# Altium footprint library con-lsta.PCBLIB: 47 footprints (part 3 of 3)
Each footprint in its own frame and in the unit in brackets; x right, y up, seen from the top. Pads: shape width x height; smd on the part's side, far side on the other; paste and mask are expansions set on the pad; w line width, h text height; cw(c..) or ccw(c..) is an arc to the next point about the centre after c.
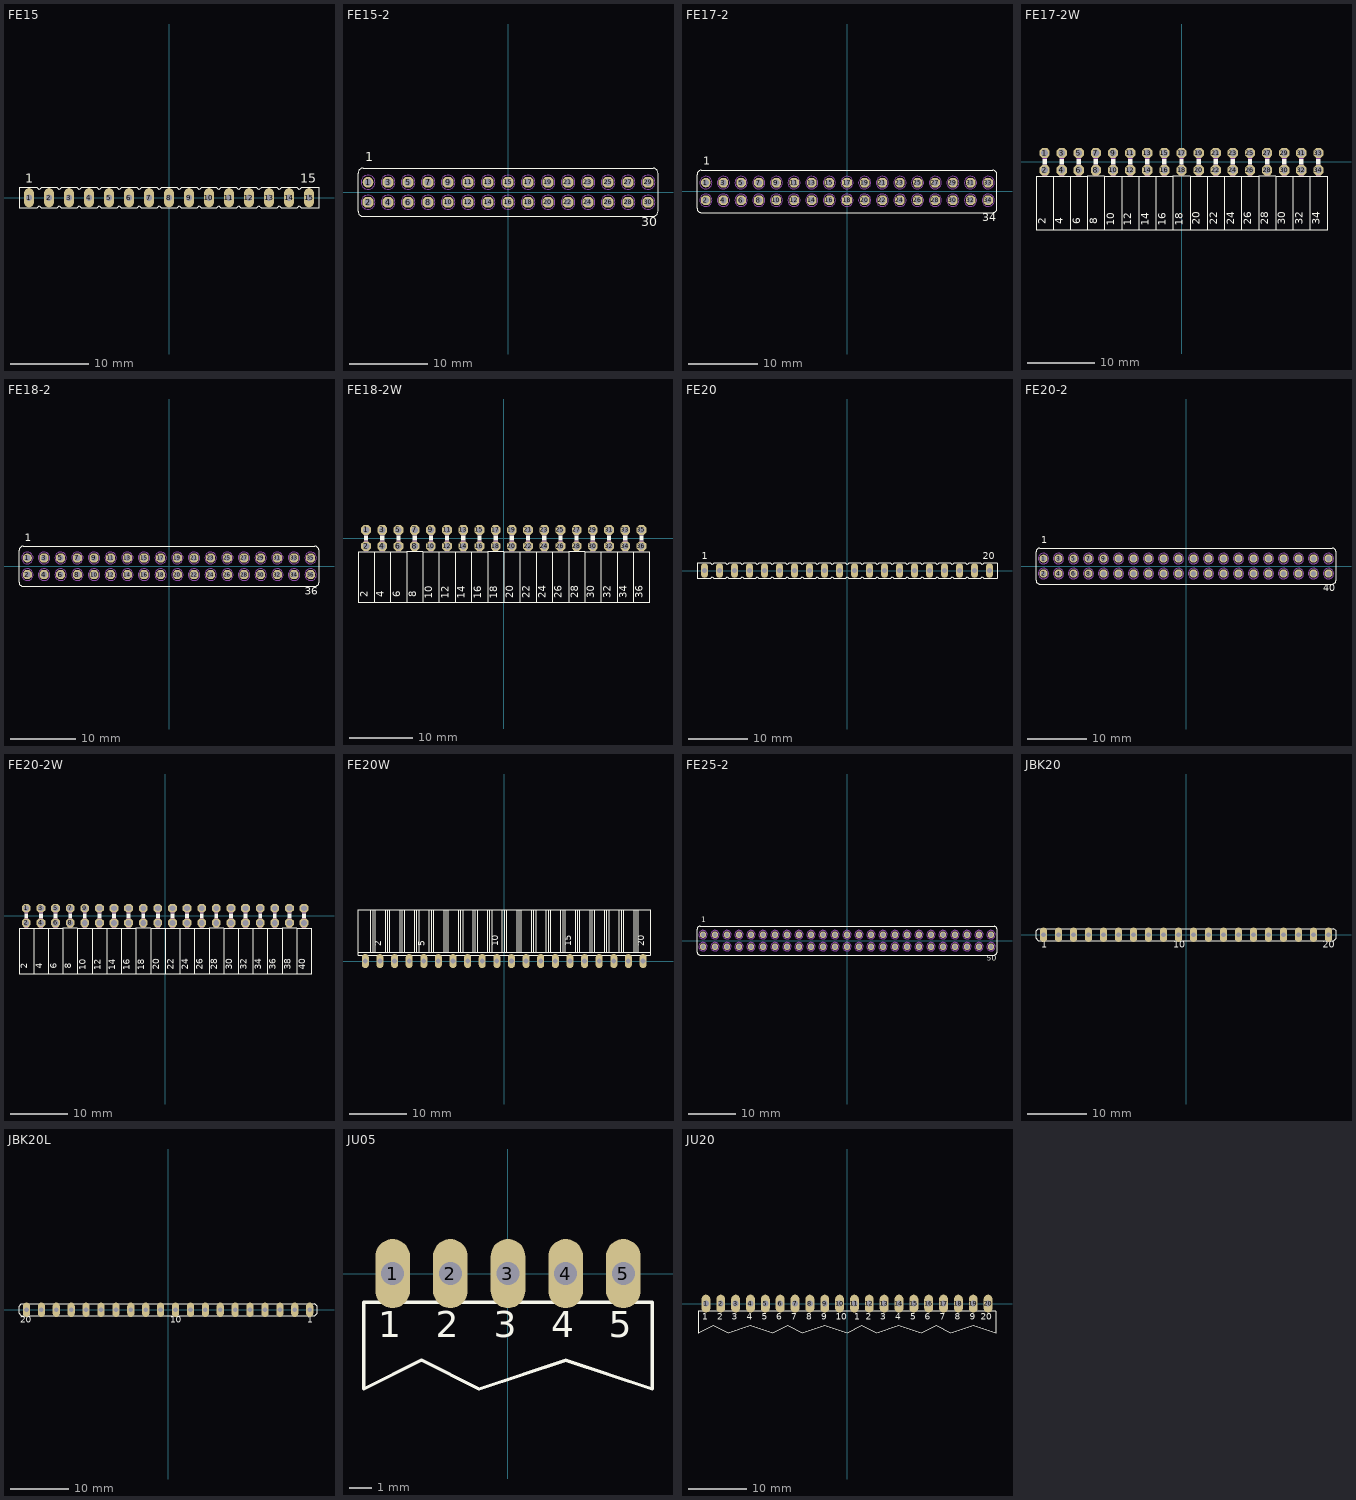
[diagram p2: the footprints below, top view; thin cyan lines are the x and y axes]

## FE15 [mil]
pads (15):
  oval 48x96 hole 32: 1(-700,0) 2(-600,0) 3(-500,0) 4(-400,0) 5(-300,0) 6(-200,0) 7(-100,0) 8(0,0) 9(100,0) 10(200,0) 11(300,0) 12(400,0) 13(500,0) 14(600,0) 15(700,0)
Top Overlay:
  lines w6: -750,-50 -750,50 -660,50 -650,40 -640,50 -560,50 -550,40 -540,50 -460,50 -450,40 -440,50 -360,50 -350,40 -340,50 -260,50 -250,40 -240,50 -160,50 -150,40 -140,50 -60,50 -50,40 -40,50 40,50 50,40 60,50 140,50 150,40 160,50 240,50 250,40 260,50 340,50 350,40 360,50 440,50 450,40 460,50 540,50 550,40 560,50 640,50 650,40 660,50 750,50 750,-50 660,-50 650,-40 640,-50 560,-50 550,-40 540,-50 460,-50 450,-40 440,-50 360,-50 350,-40 340,-50 260,-50 250,-40 240,-50 160,-50 150,-40 140,-50 60,-50 50,-40 40,-50 -40,-50 -50,-40 -60,-50 -140,-50 -150,-40 -160,-50 -240,-50 -250,-40 -260,-50 -340,-50 -350,-40 -360,-50 -440,-50 -450,-40 -460,-50 -540,-50 -550,-40 -560,-50 -640,-50 -650,-40 -660,-50 -750,-50
  text "1" at -720,60 h77.5
  text "15" at 655,60 h77.5
Mechanical 16:
  drawing of 210 lines, arcs and shapes, not listed

## FE15-2 [mil]
pads (30):
  round 54 hole 36: 1(-700,50)
  oct 54x54 hole 36: 2(-700,-50) 3(-600,50) 4(-600,-50) 5(-500,50) 6(-500,-50) 7(-400,50) 8(-400,-50) 9(-300,50) 10(-300,-50) 11(-200,50) 12(-200,-50) 13(-100,50) 14(-100,-50) 15(0,50) 16(0,-50) 17(100,50) 18(100,-50) 19(200,50) 20(200,-50) 21(300,50) 22(300,-50) 23(400,50) 24(400,-50) 25(500,50) 26(500,-50) 27(600,50) 28(600,-50) 29(700,50) 30(700,-50)
Top Overlay:
  lines w6: -750,-95 -750,95 cw(c-725,95) -725,120 725,120 cw(c725,95) 750,95 750,-95 cw(c725,-95) 725,-120 -725,-120 cw(c-725,-95) -750,-95
  text "1" at -715,140 h77.5
  text "30" at 665,-185 h77.5
Mechanical 16:
  circle w16: c-700,-50 r5
  circle w16: c-700,50 r5
  circle w16: c-600,-50 r5
  circle w16: c-600,50 r5
  circle w16: c-500,-50 r5
  circle w16: c-500,50 r5
  circle w16: c-400,-50 r5
  circle w16: c-400,50 r5
  circle w16: c-300,-50 r5
  circle w16: c-300,50 r5
  circle w6: c-700,-50 r35
  circle w6: c-700,50 r35
  circle w6: c-600,50 r35
  circle w6: c-500,50 r35
  circle w6: c-400,50 r35
  circle w6: c-300,50 r35
  circle w6: c-600,-50 r35
  circle w6: c-500,-50 r35
  circle w6: c-400,-50 r35
  circle w6: c-300,-50 r35
  circle w16: c-200,-50 r5
  circle w16: c-200,50 r5
  circle w16: c-100,-50 r5
  circle w16: c-100,50 r5
  circle w16: c0,-50 r5
  circle w16: c0,50 r5
  circle w16: c100,-50 r5
  circle w16: c100,50 r5
  circle w16: c200,-50 r5
  circle w16: c200,50 r5
  circle w6: c-200,-50 r35
  circle w6: c-200,50 r35
  circle w6: c-100,50 r35
  circle w6: c0,50 r35
  circle w6: c100,50 r35
  circle w6: c200,50 r35
  circle w6: c-100,-50 r35
  circle w6: c0,-50 r35
  circle w6: c100,-50 r35
  circle w6: c200,-50 r35
  circle w16: c300,-50 r5
  circle w16: c300,50 r5
  circle w16: c400,-50 r5
  circle w16: c400,50 r5
  circle w16: c500,-50 r5
  circle w16: c500,50 r5
  circle w16: c600,-50 r5
  circle w16: c600,50 r5
  circle w16: c700,-50 r5
  circle w16: c700,50 r5
  circle w6: c300,-50 r35
  circle w6: c300,50 r35
  circle w6: c400,50 r35
  circle w6: c500,50 r35
  circle w6: c600,50 r35
  circle w6: c700,50 r35
  circle w6: c400,-50 r35
  circle w6: c500,-50 r35
  circle w6: c600,-50 r35
  circle w6: c700,-50 r35

## FE17-2 [mil]
pads (34):
  round 54 hole 36: 1(-800,50)
  oct 54x54 hole 36: 2(-800,-50) 3(-700,50) 4(-700,-50) 5(-600,50) 6(-600,-50) 7(-500,50) 8(-500,-50) 9(-400,50) 10(-400,-50) 11(-300,50) 12(-300,-50) 13(-200,50) 14(-200,-50) 15(-100,50) 16(-100,-50) 17(0,50) 18(0,-50) 19(100,50) 20(100,-50) 21(200,50) 22(200,-50) 23(300,50) 24(300,-50) 25(400,50) 26(400,-50) 27(500,50) 28(500,-50) 29(600,50) 30(600,-50) 31(700,50) 32(700,-50) 33(800,50) 34(800,-50)
Top Overlay:
  lines w6: -850,-95 -850,95 cw(c-825,95) -825,120 825,120 cw(c825,95) 850,95 850,-95 cw(c825,-95) 825,-120 -825,-120 cw(c-825,-95) -850,-95
  text "1" at -815,135 h77.5
  text "34" at 765,-185 h77.5
Mechanical 16:
  circle w16: c-800,-50 r5
  circle w16: c-800,50 r5
  circle w16: c-700,-50 r5
  circle w16: c-700,50 r5
  circle w16: c-600,-50 r5
  circle w16: c-600,50 r5
  circle w16: c-500,-50 r5
  circle w16: c-500,50 r5
  circle w16: c-400,-50 r5
  circle w16: c-400,50 r5
  circle w6: c-800,-50 r35
  circle w6: c-800,50 r35
  circle w6: c-700,50 r35
  circle w6: c-600,50 r35
  circle w6: c-500,50 r35
  circle w6: c-400,50 r35
  circle w6: c-700,-50 r35
  circle w6: c-600,-50 r35
  circle w6: c-500,-50 r35
  circle w6: c-400,-50 r35
  circle w16: c-300,-50 r5
  circle w16: c-300,50 r5
  circle w16: c-200,-50 r5
  circle w16: c-200,50 r5
  circle w16: c-100,-50 r5
  circle w16: c-100,50 r5
  circle w16: c0,-50 r5
  circle w16: c0,50 r5
  circle w16: c100,-50 r5
  circle w16: c100,50 r5
  circle w6: c-300,-50 r35
  circle w6: c-300,50 r35
  circle w6: c-200,50 r35
  circle w6: c-100,50 r35
  circle w6: c0,50 r35
  circle w6: c100,50 r35
  circle w6: c-200,-50 r35
  circle w6: c-100,-50 r35
  circle w6: c0,-50 r35
  circle w6: c100,-50 r35
  circle w16: c200,-50 r5
  circle w16: c200,50 r5
  circle w16: c300,-50 r5
  circle w16: c300,50 r5
  circle w16: c400,-50 r5
  circle w16: c400,50 r5
  circle w16: c500,-50 r5
  circle w16: c500,50 r5
  circle w16: c600,-50 r5
  circle w16: c600,50 r5
  circle w6: c200,-50 r35
  circle w6: c200,50 r35
  circle w6: c300,50 r35
  circle w6: c400,50 r35
  circle w6: c500,50 r35
  circle w6: c600,50 r35
  circle w6: c300,-50 r35
  circle w6: c400,-50 r35
  circle w6: c500,-50 r35
  circle w6: c600,-50 r35
  circle w16: c700,-50 r5
  circle w16: c700,50 r5
  circle w16: c800,-50 r5
  circle w16: c800,50 r5
  circle w6: c700,-50 r35
  circle w6: c700,50 r35
  circle w6: c800,50 r35
  circle w6: c800,-50 r35

## FE17-2W [mil]
pads (34):
  oct 60x60 hole 40: 1(-800,50) 2(-800,-50) 3(-700,50) 4(-700,-50) 5(-600,50) 6(-600,-50) 7(-500,50) 8(-500,-50) 9(-400,50) 10(-400,-50) 11(-300,50) 12(-300,-50) 13(-200,50) 14(-200,-50) 15(-100,50) 16(-100,-50) 17(0,50) 18(0,-50) 19(100,50) 20(100,-50) 21(200,50) 22(200,-50) 23(300,50) 24(300,-50) 25(400,50) 26(400,-50) 27(500,50) 28(500,-50) 29(600,50) 30(600,-50) 31(700,50) 32(700,-50) 33(800,50) 34(800,-50)
Top Overlay:
  rectangle: 787,-16 813,16
  rectangle: 687,-16 713,16
  rectangle: 587,-16 613,16
  rectangle: 487,-16 513,16
  rectangle: 387,-16 413,16
  rectangle: 287,-16 313,16
  rectangle: 187,-16 213,16
  rectangle: 87,-16 113,16
  rectangle: -13,-16 13,16
  rectangle: -113,-16 -87,16
  rectangle: -213,-16 -187,16
  rectangle: -313,-16 -287,16
  rectangle: -413,-16 -387,16
  rectangle: -513,-16 -487,16
  rectangle: -613,-16 -587,16
  rectangle: -713,-16 -687,16
  rectangle: -813,-16 -787,16
  lines w6: -750,-400 -750,-85 ; -750,-400 -650,-400 ; -750,-400 -850,-400 -850,-85 -750,-85 ; -750,-85 -650,-85 ; -650,-400 -650,-85 ; -650,-400 -550,-400 ; -650,-85 -550,-85 ; -550,-400 -550,-85 ; -550,-400 -450,-400 ; -550,-85 -450,-85 ; -450,-400 -450,-85 ; -450,-400 -350,-400 ; -450,-85 -350,-85 ; -350,-400 -350,-85 ; -350,-400 -250,-400 ; -350,-85 -250,-85 ; -250,-400 -250,-85 ; -250,-400 -150,-400 ; -250,-85 -150,-85 ; -150,-400 -150,-85 ; -150,-400 -50,-400 ; -150,-85 -50,-85 ; -50,-400 -50,-85 ; -50,-400 50,-400 ; -50,-85 50,-85 ; 50,-400 50,-85 ; 50,-400 150,-400 ; 50,-85 150,-85 ; 150,-400 150,-85 ; 150,-400 250,-400 ; 150,-85 250,-85 ; 250,-400 250,-85 ; 250,-400 350,-400 ; 250,-85 350,-85 ; 350,-400 350,-85 ; 350,-400 450,-400 ; 350,-85 450,-85 ; 450,-400 450,-85 ; 450,-400 550,-400 ; 450,-85 550,-85 ; 550,-400 550,-85 ; 550,-400 650,-400 ; 550,-85 650,-85 ; 650,-400 650,-85 ; 650,-400 750,-400 ; 650,-85 750,-85 ; 750,-400 750,-85 ; 750,-400 850,-400 850,-85 750,-85
  text "34" at 825,-370 h77.5
  text "32" at 725,-370 h77.5
  text "30" at 625,-370 h77.5
  text "28" at 525,-370 h77.5
  text "26" at 425,-370 h77.5
  text "24" at 325,-370 h77.5
  text "22" at 225,-370 h77.5
  text "20" at 125,-370 h77.5
  text "18" at 25,-375 h77.5
  text "16" at -75,-375 h77.5
  text "14" at -175,-375 h77.5
  text "12" at -275,-375 h77.5
  text "10" at -375,-375 h77.5
  text "8" at -475,-365 h77.5
  text "6" at -575,-365 h77.5
  text "4" at -675,-365 h77.5
  text "2" at -775,-365 h77.5
Mechanical 16:
  rectangle: 787,-84 813,-16
  rectangle: 787,16 813,62
  rectangle: 687,-84 713,-16
  rectangle: 587,-84 613,-16
  rectangle: 687,16 713,62
  rectangle: 587,16 613,62
  rectangle: 487,-84 513,-16
  rectangle: 487,16 513,62
  rectangle: 387,-84 413,-16
  rectangle: 387,16 413,62
  rectangle: 287,-84 313,-16
  rectangle: 187,-84 213,-16
  rectangle: 287,16 313,62
  rectangle: 187,16 213,62
  rectangle: 87,-84 113,-16
  rectangle: -13,-84 13,-16
  rectangle: -113,-84 -87,-16
  rectangle: 87,16 113,62
  rectangle: -13,16 13,62
  rectangle: -113,16 -87,62
  rectangle: -213,16 -187,62
  rectangle: -313,16 -287,62
  rectangle: -213,-84 -187,-16
  rectangle: -313,-84 -287,-16
  rectangle: -413,-84 -387,-16
  rectangle: -513,-84 -487,-16
  rectangle: -413,16 -387,62
  rectangle: -513,16 -487,62
  rectangle: -613,-84 -587,-16
  rectangle: -713,-84 -687,-16
  rectangle: -813,-84 -787,-16
  rectangle: -613,16 -587,62
  rectangle: -713,16 -687,62
  rectangle: -813,16 -787,62

## FE18-2 [mil]
pads (36):
  round 54 hole 36: 1(-850,50)
  oct 54x54 hole 36: 2(-850,-50) 3(-750,50) 4(-750,-50) 5(-650,50) 6(-650,-50) 7(-550,50) 8(-550,-50) 9(-450,50) 10(-450,-50) 11(-350,50) 12(-350,-50) 13(-250,50) 14(-250,-50) 15(-150,50) 16(-150,-50) 17(-50,50) 18(-50,-50) 19(50,50) 20(50,-50) 21(150,50) 22(150,-50) 23(250,50) 24(250,-50) 25(350,50) 26(350,-50) 27(450,50) 28(450,-50) 29(550,50) 30(550,-50) 31(650,50) 32(650,-50) 33(750,50) 34(750,-50) 35(850,50) 36(850,-50)
Top Overlay:
  lines w6: -900,-95 -900,95 cw(c-875,95) -875,120 875,120 cw(c875,95) 900,95 900,-95 cw(c875,-95) 875,-120 -875,-120 cw(c-875,-95) -900,-95
  text "1" at -865,135 h77.5
  text "36" at 815,-185 h77.5
Mechanical 16:
  circle w16: c-850,-50 r5
  circle w16: c-850,50 r5
  circle w16: c-750,-50 r5
  circle w16: c-750,50 r5
  circle w16: c-650,-50 r5
  circle w16: c-650,50 r5
  circle w16: c-550,-50 r5
  circle w16: c-550,50 r5
  circle w16: c-450,-50 r5
  circle w16: c-450,50 r5
  circle w6: c-850,-50 r35
  circle w6: c-850,50 r35
  circle w6: c-750,50 r35
  circle w6: c-650,50 r35
  circle w6: c-550,50 r35
  circle w6: c-450,50 r35
  circle w6: c-750,-50 r35
  circle w6: c-650,-50 r35
  circle w6: c-550,-50 r35
  circle w6: c-450,-50 r35
  circle w16: c-350,-50 r5
  circle w16: c-350,50 r5
  circle w16: c-250,-50 r5
  circle w16: c-250,50 r5
  circle w16: c-150,-50 r5
  circle w16: c-150,50 r5
  circle w16: c-50,-50 r5
  circle w16: c-50,50 r5
  circle w16: c50,-50 r5
  circle w16: c50,50 r5
  circle w6: c-350,-50 r35
  circle w6: c-350,50 r35
  circle w6: c-250,50 r35
  circle w6: c-150,50 r35
  circle w6: c-50,50 r35
  circle w6: c50,50 r35
  circle w6: c-250,-50 r35
  circle w6: c-150,-50 r35
  circle w6: c-50,-50 r35
  circle w6: c50,-50 r35
  circle w16: c150,-50 r5
  circle w16: c150,50 r5
  circle w16: c250,-50 r5
  circle w16: c250,50 r5
  circle w16: c350,-50 r5
  circle w16: c350,50 r5
  circle w16: c450,-50 r5
  circle w16: c450,50 r5
  circle w16: c550,-50 r5
  circle w16: c550,50 r5
  circle w6: c150,-50 r35
  circle w6: c150,50 r35
  circle w6: c250,50 r35
  circle w6: c350,50 r35
  circle w6: c450,50 r35
  circle w6: c550,50 r35
  circle w6: c250,-50 r35
  circle w6: c350,-50 r35
  circle w6: c450,-50 r35
  circle w6: c550,-50 r35
  circle w16: c650,-50 r5
  circle w16: c650,50 r5
  circle w16: c750,-50 r5
  circle w16: c750,50 r5
  circle w6: c650,-50 r35
  circle w6: c650,50 r35
  circle w6: c750,50 r35
  circle w6: c750,-50 r35
  circle w16: c850,-50 r5
  circle w16: c850,50 r5
  circle w6: c850,-50 r35
  circle w6: c850,50 r35

## FE18-2W [mil]
pads (36):
  oct 60x60 hole 40: 1(-850,50) 2(-850,-50) 3(-750,50) 4(-750,-50) 5(-650,50) 6(-650,-50) 7(-550,50) 8(-550,-50) 9(-450,50) 10(-450,-50) 11(-350,50) 12(-350,-50) 13(-250,50) 14(-250,-50) 15(-150,50) 16(-150,-50) 17(-50,50) 18(-50,-50) 19(50,50) 20(50,-50) 21(150,50) 22(150,-50) 23(250,50) 24(250,-50) 25(350,50) 26(350,-50) 27(450,50) 28(450,-50) 29(550,50) 30(550,-50) 31(650,50) 32(650,-50) 33(750,50) 34(750,-50) 35(850,50) 36(850,-50)
Top Overlay:
  rectangle: 737,-16 763,16
  rectangle: 637,-16 663,16
  rectangle: 537,-16 563,16
  rectangle: 437,-16 463,16
  rectangle: 337,-16 363,16
  rectangle: 237,-16 263,16
  rectangle: 137,-16 163,16
  rectangle: 37,-16 63,16
  rectangle: -63,-16 -37,16
  rectangle: -163,-16 -137,16
  rectangle: -263,-16 -237,16
  rectangle: -363,-16 -337,16
  rectangle: -463,-16 -437,16
  rectangle: -563,-16 -537,16
  rectangle: -663,-16 -637,16
  rectangle: -763,-16 -737,16
  rectangle: -863,-16 -837,16
  rectangle: 837,-16 863,16
  lines w6: -800,-400 -800,-85 ; -800,-400 -700,-400 ; -800,-400 -900,-400 -900,-85 -800,-85 ; -800,-85 -700,-85 ; -700,-400 -700,-85 ; -700,-400 -600,-400 ; -700,-85 -600,-85 ; -600,-400 -600,-85 ; -600,-400 -500,-400 ; -600,-85 -500,-85 ; -500,-400 -500,-85 ; -500,-400 -400,-400 ; -500,-85 -400,-85 ; -400,-400 -400,-85 ; -400,-400 -300,-400 ; -400,-85 -300,-85 ; -300,-400 -300,-85 ; -300,-400 -200,-400 ; -300,-85 -200,-85 ; -200,-400 -200,-85 ; -200,-400 -100,-400 ; -200,-85 -100,-85 ; -100,-400 -100,-85 ; -100,-400 0,-400 ; -100,-85 0,-85 ; 0,-400 0,-85 ; 0,-400 100,-400 ; 0,-85 100,-85 ; 100,-400 100,-85 ; 100,-400 200,-400 ; 100,-85 200,-85 ; 200,-400 200,-85 ; 200,-400 300,-400 ; 200,-85 300,-85 ; 300,-400 300,-85 ; 300,-400 400,-400 ; 300,-85 400,-85 ; 400,-400 400,-85 ; 400,-400 500,-400 ; 400,-85 500,-85 ; 500,-400 500,-85 ; 500,-400 600,-400 ; 500,-85 600,-85 ; 600,-400 600,-85 ; 600,-400 700,-400 ; 600,-85 700,-85 ; 700,-400 700,-85 ; 700,-400 800,-400 ; 700,-85 800,-85 ; 800,-400 800,-85 ; 800,-400 900,-400 900,-85 800,-85
  text "34" at 775,-370 h77.5
  text "32" at 675,-370 h77.5
  text "30" at 575,-370 h77.5
  text "28" at 475,-370 h77.5
  text "26" at 375,-370 h77.5
  text "24" at 275,-370 h77.5
  text "22" at 175,-370 h77.5
  text "20" at 75,-370 h77.5
  text "18" at -25,-375 h77.5
  text "16" at -125,-375 h77.5
  text "14" at -225,-375 h77.5
  text "12" at -325,-375 h77.5
  text "10" at -425,-375 h77.5
  text "8" at -525,-365 h77.5
  text "6" at -625,-365 h77.5
  text "4" at -725,-365 h77.5
  text "2" at -825,-365 h77.5
  text "36" at 875,-370 h77.5
Mechanical 16:
  rectangle: 737,-84 763,-16
  rectangle: 737,16 763,62
  rectangle: 637,-84 663,-16
  rectangle: 537,-84 563,-16
  rectangle: 637,16 663,62
  rectangle: 537,16 563,62
  rectangle: 437,-84 463,-16
  rectangle: 437,16 463,62
  rectangle: 337,-84 363,-16
  rectangle: 337,16 363,62
  rectangle: 237,-84 263,-16
  rectangle: 137,-84 163,-16
  rectangle: 237,16 263,62
  rectangle: 137,16 163,62
  rectangle: 37,-84 63,-16
  rectangle: -63,-84 -37,-16
  rectangle: -163,-84 -137,-16
  rectangle: 37,16 63,62
  rectangle: -63,16 -37,62
  rectangle: -163,16 -137,62
  rectangle: -263,16 -237,62
  rectangle: -363,16 -337,62
  rectangle: -263,-84 -237,-16
  rectangle: -363,-84 -337,-16
  rectangle: -463,-84 -437,-16
  rectangle: -563,-84 -537,-16
  rectangle: -463,16 -437,62
  rectangle: -563,16 -537,62
  rectangle: -663,-84 -637,-16
  rectangle: -763,-84 -737,-16
  rectangle: -863,-84 -837,-16
  rectangle: -663,16 -637,62
  rectangle: -763,16 -737,62
  rectangle: -863,16 -837,62
  rectangle: 837,16 863,62
  rectangle: 837,-84 863,-16

## FE20 [mil]
pads (20):
  oval 48x96 hole 32: 1(-950,0) 2(-850,0) 3(-750,0) 4(-650,0) 5(-550,0) 6(-450,0) 7(-350,0) 8(-250,0) 9(-150,0) 10(-50,0) 11(50,0) 12(150,0) 13(250,0) 14(350,0) 15(450,0) 16(550,0) 17(650,0) 18(750,0) 19(850,0) 20(950,0)
Top Overlay:
  lines w6: -1000,-50 -1000,50 -910,50 -900,40 -890,50 -810,50 -800,40 -790,50 -710,50 -700,40 -690,50 -610,50 -600,40 -590,50 -510,50 -500,40 -490,50 -410,50 -400,40 -390,50 -310,50 -300,40 -290,50 -210,50 -200,40 -190,50 -110,50 -100,40 -90,50 -10,50 0,40 10,50 90,50 100,40 110,50 190,50 200,40 210,50 290,50 300,40 310,50 390,50 400,40 410,50 490,50 500,40 510,50 590,50 600,40 610,50 690,50 700,40 710,50 790,50 800,40 810,50 890,50 900,40 910,50 1000,50 1000,-50 910,-50 900,-40 890,-50 810,-50 800,-40 790,-50 710,-50 700,-40 690,-50 610,-50 600,-40 590,-50 510,-50 500,-40 490,-50 410,-50 400,-40 390,-50 310,-50 300,-40 290,-50 210,-50 200,-40 190,-50 110,-50 100,-40 90,-50 10,-50 0,-40 -10,-50 -90,-50 -100,-40 -110,-50 -190,-50 -200,-40 -210,-50 -290,-50 -300,-40 -310,-50 -390,-50 -400,-40 -410,-50 -490,-50 -500,-40 -510,-50 -590,-50 -600,-40 -610,-50 -690,-50 -700,-40 -710,-50 -790,-50 -800,-40 -810,-50 -890,-50 -900,-40 -910,-50 -1000,-50
  text "1" at -970,60 h77.5
  text "20" at 905,60 h77.5
Mechanical 16:
  drawing of 280 lines, arcs and shapes, not listed

## FE20-2 [mil]
pads (40):
  round 54 hole 36: 1(-950,50)
  oct 54x54 hole 36: 2(-950,-50) 3(-850,50) 4(-850,-50) 5(-750,50) 6(-750,-50) 7(-650,50) 8(-650,-50) 9(-550,50) 10(-550,-50) 11(-450,50) 12(-450,-50) 13(-350,50) 14(-350,-50) 15(-250,50) 16(-250,-50) 17(-150,50) 18(-150,-50) 19(-50,50) 20(-50,-50) 21(50,50) 22(50,-50) 23(150,50) 24(150,-50) 25(250,50) 26(250,-50) 27(350,50) 28(350,-50) 29(450,50) 30(450,-50) 31(550,50) 32(550,-50) 33(650,50) 34(650,-50) 35(750,50) 36(750,-50) 37(850,50) 38(850,-50) 39(950,50) 40(950,-50)
Top Overlay:
  lines w6: -1000,-95 -1000,95 cw(c-975,95) -975,120 975,120 cw(c975,95) 1000,95 1000,-95 cw(c975,-95) 975,-120 -975,-120 cw(c-975,-95) -1000,-95
  text "1" at -965,135 h77.5
  text "40" at 915,-185 h77.5
Mechanical 16:
  circle w16: c-950,-50 r5
  circle w16: c-950,50 r5
  circle w16: c-850,-50 r5
  circle w16: c-850,50 r5
  circle w16: c-750,-50 r5
  circle w16: c-750,50 r5
  circle w16: c-650,-50 r5
  circle w16: c-650,50 r5
  circle w16: c-550,-50 r5
  circle w16: c-550,50 r5
  circle w6: c-950,-50 r35
  circle w6: c-950,50 r35
  circle w6: c-850,50 r35
  circle w6: c-750,50 r35
  circle w6: c-650,50 r35
  circle w6: c-550,50 r35
  circle w6: c-850,-50 r35
  circle w6: c-750,-50 r35
  circle w6: c-650,-50 r35
  circle w6: c-550,-50 r35
  circle w16: c-450,-50 r5
  circle w16: c-450,50 r5
  circle w16: c-350,-50 r5
  circle w16: c-350,50 r5
  circle w16: c-250,-50 r5
  circle w16: c-250,50 r5
  circle w16: c-150,-50 r5
  circle w16: c-150,50 r5
  circle w16: c-50,-50 r5
  circle w16: c-50,50 r5
  circle w6: c-450,-50 r35
  circle w6: c-450,50 r35
  circle w6: c-350,50 r35
  circle w6: c-250,50 r35
  circle w6: c-150,50 r35
  circle w6: c-50,50 r35
  circle w6: c-350,-50 r35
  circle w6: c-250,-50 r35
  circle w6: c-150,-50 r35
  circle w6: c-50,-50 r35
  circle w16: c50,-50 r5
  circle w16: c50,50 r5
  circle w16: c150,-50 r5
  circle w16: c150,50 r5
  circle w16: c250,-50 r5
  circle w16: c250,50 r5
  circle w16: c350,-50 r5
  circle w16: c350,50 r5
  circle w16: c450,-50 r5
  circle w16: c450,50 r5
  circle w6: c50,-50 r35
  circle w6: c50,50 r35
  circle w6: c150,50 r35
  circle w6: c250,50 r35
  circle w6: c350,50 r35
  circle w6: c450,50 r35
  circle w6: c150,-50 r35
  circle w6: c250,-50 r35
  circle w6: c350,-50 r35
  circle w6: c450,-50 r35
  circle w16: c550,-50 r5
  circle w16: c550,50 r5
  circle w16: c650,-50 r5
  circle w16: c650,50 r5
  circle w16: c750,-50 r5
  circle w16: c750,50 r5
  circle w16: c850,-50 r5
  circle w16: c850,50 r5
  circle w16: c950,-50 r5
  circle w16: c950,50 r5
  circle w6: c550,-50 r35
  circle w6: c550,50 r35
  circle w6: c650,50 r35
  circle w6: c750,50 r35
  circle w6: c850,50 r35
  circle w6: c950,50 r35
  circle w6: c650,-50 r35
  circle w6: c750,-50 r35
  circle w6: c850,-50 r35
  circle w6: c950,-50 r35

## FE20-2W [mil]
pads (40):
  oct 60x60 hole 40: 1(-950,50) 2(-950,-50) 3(-850,50) 4(-850,-50) 5(-750,50) 6(-750,-50) 7(-650,50) 8(-650,-50) 9(-550,50) 10(-550,-50) 11(-450,50) 12(-450,-50) 13(-350,50) 14(-350,-50) 15(-250,50) 16(-250,-50) 17(-150,50) 18(-150,-50) 19(-50,50) 20(-50,-50) 21(50,50) 22(50,-50) 23(150,50) 24(150,-50) 25(250,50) 26(250,-50) 27(350,50) 28(350,-50) 29(450,50) 30(450,-50) 31(550,50) 32(550,-50) 33(650,50) 34(650,-50) 35(750,50) 36(750,-50) 37(850,50) 38(850,-50) 39(950,50) 40(950,-50)
Top Overlay:
  rectangle: 937,-16 963,16
  rectangle: 837,-16 863,16
  rectangle: 737,-16 763,16
  rectangle: 637,-16 663,16
  rectangle: 537,-16 563,16
  rectangle: 437,-16 463,16
  rectangle: 337,-16 363,16
  rectangle: 237,-16 263,16
  rectangle: 137,-16 163,16
  rectangle: 37,-16 63,16
  rectangle: -63,-16 -37,16
  rectangle: -163,-16 -137,16
  rectangle: -263,-16 -237,16
  rectangle: -363,-16 -337,16
  rectangle: -463,-16 -437,16
  rectangle: -563,-16 -537,16
  rectangle: -663,-16 -637,16
  rectangle: -763,-16 -737,16
  rectangle: -863,-16 -837,16
  rectangle: -963,-16 -937,16
  lines w6: -900,-400 -900,-85 ; -900,-400 -800,-400 ; -900,-400 -1000,-400 -1000,-85 -900,-85 ; -900,-85 -800,-85 ; -800,-400 -800,-85 ; -800,-400 -700,-400 ; -800,-85 -700,-85 ; -700,-400 -700,-85 ; -700,-400 -600,-400 ; -700,-85 -600,-85 ; -600,-400 -600,-85 ; -600,-400 -500,-400 ; -600,-85 -500,-85 ; -500,-400 -500,-85 ; -500,-400 -400,-400 ; -500,-85 -400,-85 ; -400,-400 -400,-85 ; -400,-400 -300,-400 ; -400,-85 -300,-85 ; -300,-400 -300,-85 ; -300,-400 -200,-400 ; -300,-85 -200,-85 ; -200,-400 -200,-85 ; -200,-400 -100,-400 ; -200,-85 -100,-85 ; -100,-400 -100,-85 ; -100,-400 0,-400 ; -100,-85 0,-85 ; 0,-400 0,-85 ; 0,-400 100,-400 ; 0,-85 100,-85 ; 100,-400 100,-85 ; 100,-400 200,-400 ; 100,-85 200,-85 ; 200,-400 200,-85 ; 200,-400 300,-400 ; 200,-85 300,-85 ; 300,-400 300,-85 ; 300,-400 400,-400 ; 300,-85 400,-85 ; 400,-400 400,-85 ; 400,-400 500,-400 ; 400,-85 500,-85 ; 500,-400 500,-85 ; 500,-400 600,-400 ; 500,-85 600,-85 ; 600,-400 600,-85 ; 600,-400 700,-400 ; 600,-85 700,-85 ; 700,-400 700,-85 ; 700,-400 800,-400 ; 700,-85 800,-85 ; 800,-400 800,-85 ; 800,-400 900,-400 ; 800,-85 900,-85 ; 900,-400 900,-85 ; 900,-400 1000,-400 1000,-85 900,-85
  text "40" at 975,-370 h77.5
  text "38" at 875,-370 h77.5
  text "36" at 775,-370 h77.5
  text "34" at 675,-370 h77.5
  text "32" at 575,-370 h77.5
  text "30" at 475,-370 h77.5
  text "28" at 375,-370 h77.5
  text "26" at 275,-370 h77.5
  text "24" at 175,-370 h77.5
  text "22" at 75,-370 h77.5
  text "20" at -25,-370 h77.5
  text "18" at -125,-375 h77.5
  text "16" at -225,-375 h77.5
  text "14" at -325,-375 h77.5
  text "12" at -425,-375 h77.5
  text "10" at -525,-375 h77.5
  text "8" at -625,-365 h77.5
  text "6" at -725,-365 h77.5
  text "4" at -825,-365 h77.5
  text "2" at -925,-365 h77.5
Mechanical 16:
  rectangle: 937,-84 963,-16
  rectangle: 937,16 963,62
  rectangle: 837,-84 863,-16
  rectangle: 837,16 863,62
  rectangle: 737,-84 763,-16
  rectangle: 737,16 763,62
  rectangle: 637,-84 663,-16
  rectangle: 637,16 663,62
  rectangle: 537,-84 563,-16
  rectangle: 437,-84 463,-16
  rectangle: 537,16 563,62
  rectangle: 437,16 463,62
  rectangle: 337,-84 363,-16
  rectangle: 337,16 363,62
  rectangle: 237,-84 263,-16
  rectangle: 237,16 263,62
  rectangle: 137,-84 163,-16
  rectangle: 37,-84 63,-16
  rectangle: 137,16 163,62
  rectangle: 37,16 63,62
  rectangle: -63,-84 -37,-16
  rectangle: -163,-84 -137,-16
  rectangle: -263,-84 -237,-16
  rectangle: -63,16 -37,62
  rectangle: -163,16 -137,62
  rectangle: -263,16 -237,62
  rectangle: -363,16 -337,62
  rectangle: -463,16 -437,62
  rectangle: -363,-84 -337,-16
  rectangle: -463,-84 -437,-16
  rectangle: -563,-84 -537,-16
  rectangle: -663,-84 -637,-16
  rectangle: -563,16 -537,62
  rectangle: -663,16 -637,62
  rectangle: -763,-84 -737,-16
  rectangle: -863,-84 -837,-16
  rectangle: -963,-84 -937,-16
  rectangle: -763,16 -737,62
  rectangle: -863,16 -837,62
  rectangle: -963,16 -937,62

## FE20W [mil]
pads (20):
  oval 48x96 hole 32: 1(-950,0) 2(-850,0) 3(-750,0) 4(-650,0) 5(-550,0) 6(-450,0) 7(-350,0) 8(-250,0) 9(-150,0) 10(-50,0) 11(50,0) 12(150,0) 13(250,0) 14(350,0) 15(450,0) 16(550,0) 17(650,0) 18(750,0) 19(850,0) 20(950,0)
Top Overlay:
  drawing of 176 lines, arcs and shapes, not listed
  text "2" at -825,100 h77.5
  text "5" at -525,100 h77.5
  text "10" at -25,100 h77.5
  text "15" at 475,100 h77.5
  text "20" at 975,100 h77.5
Mechanical 16:
  rectangle: -960,0 -940,40
  rectangle: -860,0 -840,40
  rectangle: -760,0 -740,40
  rectangle: -660,0 -640,40
  rectangle: -560,0 -540,40
  rectangle: -460,0 -440,40
  rectangle: -360,0 -340,40
  rectangle: -260,0 -240,40
  rectangle: -160,0 -140,40
  rectangle: -60,0 -40,40
  rectangle: 40,0 60,40
  rectangle: 140,0 160,40
  rectangle: 240,0 260,40
  rectangle: 340,0 360,40
  rectangle: 440,0 460,40
  rectangle: 540,0 560,40
  rectangle: 640,0 660,40
  rectangle: 740,0 760,40
  rectangle: 840,0 860,40
  rectangle: 940,0 960,40

## FE25-2 [mil]
pads (50):
  round 54 hole 36: 1(-1200,50) 41(800,50)
  oct 54x54 hole 36: 2(-1200,-50) 3(-1100,50) 4(-1100,-50) 5(-1000,50) 6(-1000,-50) 7(-900,50) 8(-900,-50) 9(-800,50) 10(-800,-50) 11(-700,50) 12(-700,-50) 13(-600,50) 14(-600,-50) 15(-500,50) 16(-500,-50) 17(-400,50) 18(-400,-50) 19(-300,50) 20(-300,-50) 21(-200,50) 22(-200,-50) 23(-100,50) 24(-100,-50) 25(0,50) 26(0,-50) 27(100,50) 28(100,-50) 29(200,50) 30(200,-50) 31(300,50) 32(300,-50) 33(400,50) 34(400,-50) 35(500,50) 36(500,-50) 37(600,50) 38(600,-50) 39(700,50) 40(700,-50) 42(800,-50) 43(900,50) 44(900,-50) 45(1000,50) 46(1000,-50) 47(1100,50) 48(1100,-50) 49(1200,50) 50(1200,-50)
Top Overlay:
  lines w6: -1250,-95 -1250,95 cw(c-1225,95) -1225,120 1225,120 cw(c1225,95) 1250,95 1250,-95 cw(c1225,-95) 1225,-120 -1225,-120 cw(c-1225,-95) -1250,-95
  text "1" at -1215,135 h77.5
  text "50" at 1165,-185 h77.5
Mechanical 16:
  circle w16: c-1200,-50 r5
  circle w16: c-1200,50 r5
  circle w16: c-1100,-50 r5
  circle w16: c-1100,50 r5
  circle w16: c-1000,-50 r5
  circle w16: c-1000,50 r5
  circle w16: c-900,-50 r5
  circle w16: c-900,50 r5
  circle w16: c-800,-50 r5
  circle w16: c-800,50 r5
  circle w6: c-1200,-50 r35
  circle w6: c-1200,50 r35
  circle w6: c-1100,50 r35
  circle w6: c-1000,50 r35
  circle w6: c-900,50 r35
  circle w6: c-800,50 r35
  circle w6: c-1100,-50 r35
  circle w6: c-1000,-50 r35
  circle w6: c-900,-50 r35
  circle w6: c-800,-50 r35
  circle w16: c-700,-50 r5
  circle w16: c-700,50 r5
  circle w16: c-600,-50 r5
  circle w16: c-600,50 r5
  circle w16: c-500,-50 r5
  circle w16: c-500,50 r5
  circle w16: c-400,-50 r5
  circle w16: c-400,50 r5
  circle w16: c-300,-50 r5
  circle w16: c-300,50 r5
  circle w6: c-700,-50 r35
  circle w6: c-700,50 r35
  circle w6: c-600,50 r35
  circle w6: c-500,50 r35
  circle w6: c-400,50 r35
  circle w6: c-300,50 r35
  circle w6: c-600,-50 r35
  circle w6: c-500,-50 r35
  circle w6: c-400,-50 r35
  circle w6: c-300,-50 r35
  circle w16: c-200,-50 r5
  circle w16: c-200,50 r5
  circle w16: c-100,-50 r5
  circle w16: c-100,50 r5
  circle w16: c0,-50 r5
  circle w16: c0,50 r5
  circle w16: c100,-50 r5
  circle w16: c100,50 r5
  circle w16: c200,-50 r5
  circle w16: c200,50 r5
  circle w6: c-200,-50 r35
  circle w6: c-200,50 r35
  circle w6: c-100,50 r35
  circle w6: c0,50 r35
  circle w6: c100,50 r35
  circle w6: c200,50 r35
  circle w6: c-100,-50 r35
  circle w6: c0,-50 r35
  circle w6: c100,-50 r35
  circle w6: c200,-50 r35
  circle w16: c300,-50 r5
  circle w16: c300,50 r5
  circle w16: c400,-50 r5
  circle w16: c400,50 r5
  circle w16: c500,-50 r5
  circle w16: c500,50 r5
  circle w16: c600,-50 r5
  circle w16: c600,50 r5
  circle w16: c700,-50 r5
  circle w16: c700,50 r5
  circle w6: c300,-50 r35
  circle w6: c300,50 r35
  circle w6: c400,50 r35
  circle w6: c500,50 r35
  circle w6: c600,50 r35
  circle w6: c700,50 r35
  circle w6: c400,-50 r35
  circle w6: c500,-50 r35
  circle w6: c600,-50 r35
  circle w6: c700,-50 r35
  circle w16: c800,-50 r5
  circle w16: c800,50 r5
  circle w16: c900,-50 r5
  circle w16: c900,50 r5
  circle w16: c1000,-50 r5
  circle w16: c1000,50 r5
  circle w16: c1100,-50 r5
  circle w16: c1100,50 r5
  circle w16: c1200,-50 r5
  circle w16: c1200,50 r5
  circle w6: c800,-50 r35
  circle w6: c800,50 r35
  circle w6: c900,50 r35
  circle w6: c1000,50 r35
  circle w6: c1100,50 r35
  circle w6: c1200,50 r35
  circle w6: c900,-50 r35
  circle w6: c1000,-50 r35
  circle w6: c1100,-50 r35
  circle w6: c1200,-50 r35

## JBK20 [mil]
pads (20):
  oval 48x96 hole 32: 1(-950,0) 2(-850,0) 3(-750,0) 4(-650,0) 5(-550,0) 6(-450,0) 7(-350,0) 8(-250,0) 9(-150,0) 10(-50,0) 11(50,0) 12(150,0) 13(250,0) 14(350,0) 15(450,0) 16(550,0) 17(650,0) 18(750,0) 19(850,0) 20(950,0)
Top Overlay:
  lines w6: -1000,-25 -985,-40 985,-40 1000,-25 1000,25 985,40 -985,40 -1000,25 -1000,-25
  text "1" at -965,-105 h77.5
  text "20" at 910,-105 h77.5
  text "10" at -85,-105 h77.5
Mechanical 16:
  circle w16: c-950,0 r5
  circle w16: c-850,0 r5
  circle w16: c-750,0 r5
  circle w16: c-650,0 r5
  circle w16: c-550,0 r5
  circle w16: c-450,0 r5
  circle w16: c-350,0 r5
  circle w16: c-250,0 r5
  circle w16: c-150,0 r5
  circle w16: c-50,0 r5
  circle w16: c50,0 r5
  circle w16: c150,0 r5
  circle w16: c250,0 r5
  circle w16: c350,0 r5
  circle w16: c450,0 r5
  circle w16: c550,0 r5
  circle w16: c650,0 r5
  circle w16: c750,0 r5
  circle w16: c850,0 r5
  circle w16: c950,0 r5

## JBK20L [mil]
pads (20):
  oval 48x96 hole 32: 1(950,0) 2(850,0) 3(750,0) 4(650,0) 5(550,0) 6(450,0) 7(350,0) 8(250,0) 9(150,0) 10(50,0) 11(-50,0) 12(-150,0) 13(-250,0) 14(-350,0) 15(-450,0) 16(-550,0) 17(-650,0) 18(-750,0) 19(-850,0) 20(-950,0)
Top Overlay:
  lines w6: -1000,-25 -985,-40 985,-40 1000,-25 1000,25 985,40 -985,40 -1000,25 -1000,-25
  text "1" at 935,-105 h77.5
  text "20" at -990,-105 h77.5
  text "10" at 15,-105 h77.5
Mechanical 16:
  circle w16: c-950,0 r5
  circle w16: c-850,0 r5
  circle w16: c-750,0 r5
  circle w16: c-650,0 r5
  circle w16: c-550,0 r5
  circle w16: c-450,0 r5
  circle w16: c-350,0 r5
  circle w16: c-250,0 r5
  circle w16: c-150,0 r5
  circle w16: c-50,0 r5
  circle w16: c50,0 r5
  circle w16: c150,0 r5
  circle w16: c250,0 r5
  circle w16: c350,0 r5
  circle w16: c450,0 r5
  circle w16: c550,0 r5
  circle w16: c650,0 r5
  circle w16: c750,0 r5
  circle w16: c850,0 r5
  circle w16: c950,0 r5

## JU05 [mil]
pads (5):
  oval 60x120 hole 40: 1(-200,0) 2(-100,0) 3(0,0) 4(100,0) 5(200,0)
Top Overlay:
  rectangle: -210,-50 -190,-35
  rectangle: -110,-50 -90,-35
  rectangle: -10,-50 10,-35
  rectangle: 90,-50 110,-35
  rectangle: 190,-50 210,-35
  lines w6: -250,-200 -250,-50 250,-50 250,-200 100,-150 -50,-200 -150,-150 -250,-200
  text "1" at -225,-125 h77.5
  text "2" at -125,-125 h77.5
  text "3" at -25,-125 h77.5
  text "4" at 75,-125 h77.5
  text "5" at 175,-125 h77.5
Mechanical 16:
  rectangle: -210,-35 -190,10
  rectangle: -110,-35 -90,10
  rectangle: -10,-35 10,10
  rectangle: 90,-35 110,10
  rectangle: 190,-35 210,10

## JU20 [mil]
pads (20):
  oval 60x120 hole 40: 1(-950,0) 2(-850,0) 3(-750,0) 4(-650,0) 5(-550,0) 6(-450,0) 7(-350,0) 8(-250,0) 9(-150,0) 10(-50,0) 11(50,0) 12(150,0) 13(250,0) 14(350,0) 15(450,0) 16(550,0) 17(650,0) 18(750,0) 19(850,0) 20(950,0)
Top Overlay:
  rectangle: -960,-50 -940,-35
  rectangle: -860,-50 -840,-35
  rectangle: -760,-50 -740,-35
  rectangle: -660,-50 -640,-35
  rectangle: -560,-50 -540,-35
  rectangle: -460,-50 -440,-35
  rectangle: -360,-50 -340,-35
  rectangle: -260,-50 -240,-35
  rectangle: -160,-50 -140,-35
  rectangle: -60,-50 -40,-35
  rectangle: 40,-50 60,-35
  rectangle: 140,-50 160,-35
  rectangle: 240,-50 260,-35
  rectangle: 340,-50 360,-35
  rectangle: 440,-50 460,-35
  rectangle: 540,-50 560,-35
  rectangle: 640,-50 660,-35
  rectangle: 740,-50 760,-35
  rectangle: 840,-50 860,-35
  rectangle: 940,-50 960,-35
  lines w6: -1000,-200 -1000,-50 1000,-50 1000,-200 850,-150 700,-200 600,-150 500,-200 350,-150 200,-200 100,-150 0,-200 -150,-150 -300,-200 -400,-150 -500,-200 -650,-150 -800,-200 -900,-150 -1000,-200
  text "1" at -975,-125 h77.5
  text "2" at -875,-125 h77.5
  text "3" at -775,-125 h77.5
  text "4" at -675,-125 h77.5
  text "5" at -575,-125 h77.5
  text "6" at -475,-125 h77.5
  text "7" at -375,-125 h77.5
  text "8" at -275,-125 h77.5
  text "9" at -175,-125 h77.5
  text "10" at -75,-125 h77.5
  text "20" at 900,-125 h77.5
  text "1" at 50,-125 h77.5
  text "2" at 125,-125 h77.5
  text "3" at 225,-125 h77.5
  text "4" at 325,-125 h77.5
  text "5" at 425,-125 h77.5
  text "6" at 525,-125 h77.5
  text "7" at 625,-125 h77.5
  text "8" at 725,-125 h77.5
  text "9" at 825,-125 h77.5
Mechanical 16:
  rectangle: -960,-35 -940,10
  rectangle: -860,-35 -840,10
  rectangle: -760,-35 -740,10
  rectangle: -660,-35 -640,10
  rectangle: -560,-35 -540,10
  rectangle: -460,-35 -440,10
  rectangle: -360,-35 -340,10
  rectangle: -260,-35 -240,10
  rectangle: -160,-35 -140,10
  rectangle: -60,-35 -40,10
  rectangle: 40,-35 60,10
  rectangle: 140,-35 160,10
  rectangle: 240,-35 260,10
  rectangle: 340,-35 360,10
  rectangle: 440,-35 460,10
  rectangle: 540,-35 560,10
  rectangle: 640,-35 660,10
  rectangle: 740,-35 760,10
  rectangle: 840,-35 860,10
  rectangle: 940,-35 960,10